# Altium schematic symbol library ADR391.Schlib: 1 symbol
Pins are listed as number, name and electrical type; pins without a type are passive.

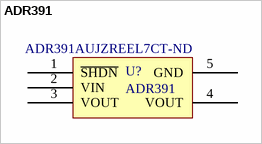
[diagram p0: symbol ADR391]

## ADR391
designator U?  Supplier Part Number 1: ADR391AUJZREEL7CT-ND
2.5V reference voltage.; Supplier 1: Digi-Key
footprint SOT95P290X160-5N (SOT + Pitch P + Nominal Lead Length X Height - #Pins)
pins: 1 ~{SHDN}, 2 VIN, 3 VOUT, 4 VOUT, 5 GND